# EAGLE library part MCP2558FD (library microchip)
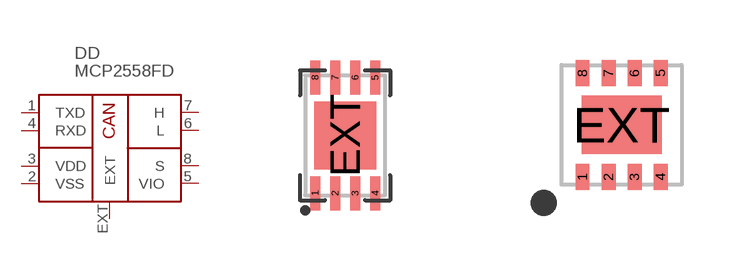
[diagram p0: symbol with the pads of 8-TDFN; footprints 8-TDFN, 8-DFN]

Designator prefix DD

## MCP2558FDT-H/MNY  [8-TDFN]
1  TXD  out
2  VSS  pwr
3  VDD  pwr
4  RXD  in
5  VIO
6  L  out
7  H  out
8  S
EXT  EXT  pwr

## MCP2558FDT-H/MF  [8-DFN]
Pads as for 8-TDFN

## Footprint 8-TDFN (pad centres in mm)
smd 0.25 x 0.85: 1 -0.75,-1.45; 2 -0.25,-1.45; 3 0.25,-1.45; 4 0.75,-1.45; 5 0.75,1.45; 6 0.25,1.45; 7 -0.25,1.45; 8 -0.75,1.45
smd 1.55 x 1.7: EXT 0,0

## Footprint 8-DFN (pad centres in mm)
smd 0.35 x 0.65: 1 -0.975,-1.3; 2 -0.325,-1.3; 3 0.325,-1.3; 4 0.975,-1.3; 5 0.975,1.3; 6 0.325,1.3; 7 -0.325,1.3; 8 -0.975,1.3
smd 2 x 1.47: EXT 0,0